# EAGLE library part CROUINO_NOVA (library e-radionica_E-R MADE)
SKU: 100026 v1.2 Croduino NOVA is microcontroller board capable of connecting to WiFi Internet network. It is based on very popular ESP8266 which struggled as a standalone device. With NOVA, just plug the board into a USB port and start programming your next Internet-connected project(IoT)! Besides that, the board fits perfectly into a breadboard so prototyping is even more simple. Connecting the physical world to the internet was never easier. The brain of NOVA is ESP8266 produced by Espressif. It comes with complete WiFi(client and server side) and integrated TCP/IP stack which supports DNS. The most important thing - it is programmable from Arduino, there is even no need to manually reset the board due to auto-reset circuit onboard. It works at 80MHz frequency, has 1MB of flash for your code(of which 0.8MB available to you) and 82kB of RAM memory(of which 49kB available to you). NOVA also supports I2C, SPI and serial communication, there is 9 GPIO for you of which all support PWM and 1 analog input. Additionally, there is onboard: CP2102 USB to UART bridge (used for USB communication), 3.3V voltage regulator, 4 LEDs, it has FCC and CE certificate etc. • ESP8266 in ESP-12 package • 80MHz, 1MB flash, 82kB RAM • programmable from Arduino IDE! • 9 GPIO pins of which all support PWM • 1 analog input(ADC), max. voltage 1V and 5V • I2C, SPI, serial communication • CP2102 USB to UART bridge with micro USB connector • 3.3V voltage regulator • LEDs: power, tx, rx, GPIO13 • automatical hardware reset before uploading the code • two pushbuttons: reset and GPIO0 • FCC and CE certificates for ESP-12
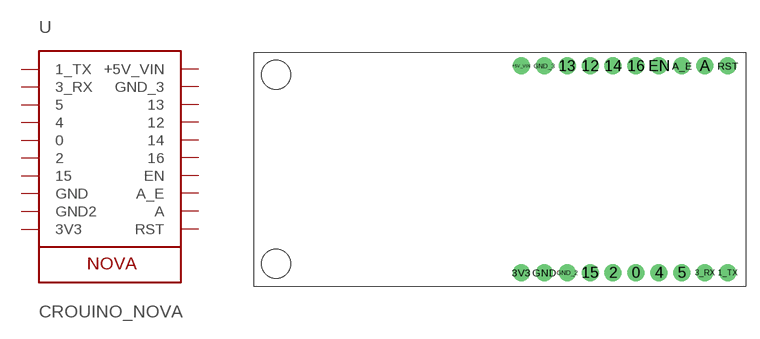
[diagram p2: symbol with the pads of CRODUINO_NOVA; footprint CRODUINO_NOVA]

Designator prefix -

## CROUINO_NOVA  [CRODUINO_NOVA]
0  0
1_TX  1_TX
2  2
3_RX  3_RX
3V3  3V3  sup
4  4
5  5
12  12
13  13
14  14
15  15
16  16
+5V_VIN  +5V_VIN  sup
A  A
A_E  A_E
EN  EN
GND  GND  sup
GND_2  GND2  sup
GND_3  GND_3  sup
RST  RST

## Footprint CRODUINO_NOVA (pad centres in mm)
drill 1.016 pad 1.88: 0 42.34,1.5; 1_TX 52.5,1.5; 2 39.8,1.5; 3_RX 49.96,1.5; 3V3 29.64,1.5; 4 44.88,1.5; 5 47.42,1.5; 12 37.26,24.36; 13 34.72,24.36; 14 39.8,24.36; 15 37.26,1.5; 16 42.34,24.36; +5V_VIN 29.64,24.36; A 49.96,24.36; A_E 47.42,24.36; EN 44.88,24.36; GND 32.18,1.5; GND_2 34.72,1.5; GND_3 32.18,24.36; RST 52.5,24.36